# EAGLE library part ATMEGA328P-MUR (library ATMEGA328P-MUR)
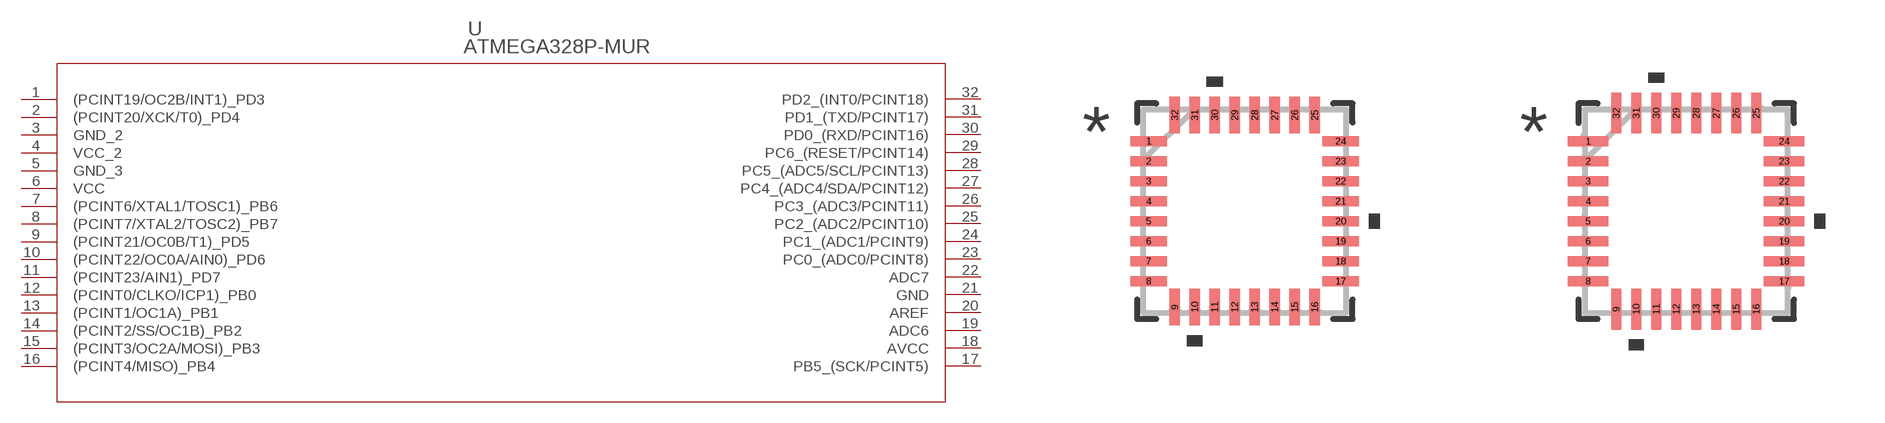
[diagram p0: symbol with the pads of 32M1-A_ATM; footprints 32M1-A_ATM, 32M1-A_ATM-M]

Designator prefix U

## ATMEGA328P-MUR (BUILT_BY: EMA_UL_Team; MANUFACTURER_PART_NUMBER: ATMEGA328P-MUR; SOURCELIBRARY: Atmel_2014-06-19; VENDOR: Atmel)  [32M1-A_ATM]
1  (PCINT19/OC2B/INT1)_PD3
2  (PCINT20/XCK/T0)_PD4
3  GND_2  pwr
4  VCC_2  pwr
5  GND_3  pwr
6  VCC  pwr
7  (PCINT6/XTAL1/TOSC1)_PB6
8  (PCINT7/XTAL2/TOSC2)_PB7
9  (PCINT21/OC0B/T1)_PD5
10  (PCINT22/OC0A/AIN0)_PD6
11  (PCINT23/AIN1)_PD7
12  (PCINT0/CLKO/ICP1)_PB0
13  (PCINT1/OC1A)_PB1
14  (PCINT2/SS/OC1B)_PB2
15  (PCINT3/OC2A/MOSI)_PB3
16  (PCINT4/MISO)_PB4
17  PB5_(SCK/PCINT5)
18  AVCC  pwr
19  ADC6  in
20  AREF  pas
21  GND  pwr
22  ADC7  in
23  PC0_(ADC0/PCINT8)
24  PC1_(ADC1/PCINT9)
25  PC2_(ADC2/PCINT10)
26  PC3_(ADC3/PCINT11)
27  PC4_(ADC4/SDA/PCINT12)
28  PC5_(ADC5/SCL/PCINT13)
29  PC6_(RESET/PCINT14)
30  PD0_(RXD/PCINT16)
31  PD1_(TXD/PCINT17)
32  PD2_(INT0/PCINT18)

## ATMEGA328P-MUR32M1-A_ATM-M (BUILT_BY: EMA_UL_Team; MANUFACTURER_PART_NUMBER: ATMEGA328P-MUR; SOURCELIBRARY: Atmel_2014-06-19; VENDOR: Atmel)  [32M1-A_ATM-M]
Pads as for 32M1-A_ATM

## ATMEGA328P-MUR32M1-A_ATM-L (BUILT_BY: EMA_UL_Team; MANUFACTURER_PART_NUMBER: ATMEGA328P-MUR; SOURCELIBRARY: Atmel_2014-06-19; VENDOR: Atmel)  [32M1-A_ATM-L]
Pads as for 32M1-A_ATM

## Footprint 32M1-A_ATM (pad centres in mm)
smd 0.914 x 0.254: 1 -2.4,1.75; 2 -2.4,1.25; 3 -2.4,0.75; 4 -2.4,0.25; 5 -2.4,-0.25; 6 -2.4,-0.75; 7 -2.4,-1.25; 8 -2.4,-1.75; 17 2.4,-1.75; 18 2.4,-1.25; 19 2.4,-0.75; 20 2.4,-0.25; 21 2.4,0.25; 22 2.4,0.75; 23 2.4,1.25; 24 2.4,1.75
smd 0.254 x 0.914: 9 -1.75,-2.4; 10 -1.25,-2.4; 11 -0.75,-2.4; 12 -0.25,-2.4; 13 0.25,-2.4; 14 0.75,-2.4; 15 1.25,-2.4; 16 1.75,-2.4; 25 1.75,2.4; 26 1.25,2.4; 27 0.75,2.4; 28 0.25,2.4; 29 -0.25,2.4; 30 -0.75,2.4; 31 -1.25,2.4; 32 -1.75,2.4

## Footprint 32M1-A_ATM-M (pad centres in mm)
smd 1.016 x 0.254: 1 -2.451,1.75; 2 -2.451,1.25; 3 -2.451,0.75; 4 -2.451,0.25; 5 -2.451,-0.25; 6 -2.451,-0.75; 7 -2.451,-1.25; 8 -2.451,-1.75; 17 2.451,-1.75; 18 2.451,-1.25; 19 2.451,-0.75; 20 2.451,-0.25; 21 2.451,0.25; 22 2.451,0.75; 23 2.451,1.25; 24 2.451,1.75
smd 0.254 x 1.016: 9 -1.75,-2.451; 10 -1.25,-2.451; 11 -0.75,-2.451; 12 -0.25,-2.451; 13 0.25,-2.451; 14 0.75,-2.451; 15 1.25,-2.451; 16 1.75,-2.451; 25 1.75,2.451; 26 1.25,2.451; 27 0.75,2.451; 28 0.25,2.451; 29 -0.25,2.451; 30 -0.75,2.451; 31 -1.25,2.451; 32 -1.75,2.451

## Footprint 32M1-A_ATM-L (pad centres in mm)
smd 0.813 x 0.254: 1 -2.349,1.75; 2 -2.349,1.25; 3 -2.349,0.75; 4 -2.349,0.25; 5 -2.349,-0.25; 6 -2.349,-0.75; 7 -2.349,-1.25; 8 -2.349,-1.75; 17 2.349,-1.75; 18 2.349,-1.25; 19 2.349,-0.75; 20 2.349,-0.25; 21 2.349,0.25; 22 2.349,0.75; 23 2.349,1.25; 24 2.349,1.75
smd 0.254 x 0.813: 9 -1.75,-2.349; 10 -1.25,-2.349; 11 -0.75,-2.349; 12 -0.25,-2.349; 13 0.25,-2.349; 14 0.75,-2.349; 15 1.25,-2.349; 16 1.75,-2.349; 25 1.75,2.349; 26 1.25,2.349; 27 0.75,2.349; 28 0.25,2.349; 29 -0.25,2.349; 30 -0.75,2.349; 31 -1.25,2.349; 32 -1.75,2.349